# Altium schematic symbol library Passives.SchLib: 29 symbols
Pins are listed as number, name and electrical type; pins without a type are passive.

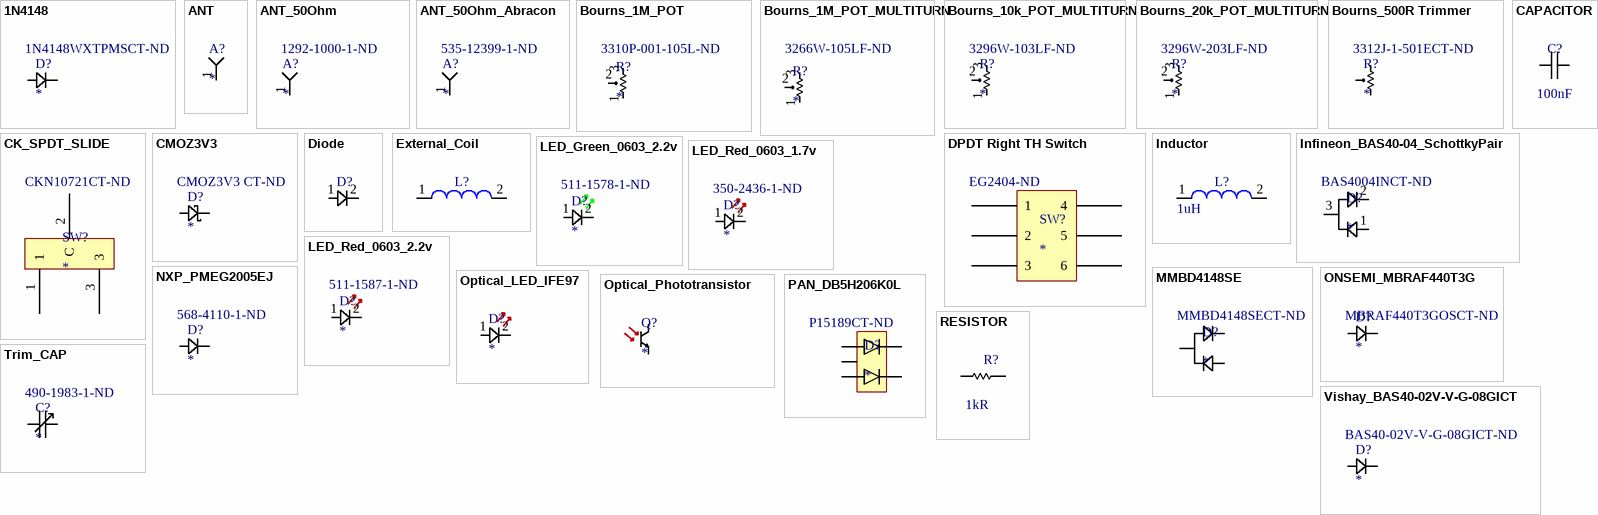
[diagram p0: symbols 1N4148 to Vishay_BAS40-02V-V-G-08GICT]

## 1N4148
designator D?  Supplier Part Number 1: 1N4148WXTPMSCT-ND
Supplier 1: Digi-Key
footprint 1N4148_SOD323_SC70
pins: 1, 2

## ANT
designator A?
external hole
footprint Hole
pins: 1

## ANT_50Ohm
designator A?  Supplier Part Number 1: 1292-1000-1-ND
Supplier 1: Digi-Key
footprint RES1206R (resistor 1206 reflow soldering)
pins: 1

## ANT_50Ohm_Abracon
designator A?  Supplier Part Number 1: 535-12399-1-ND
Abracon ACA-102-T; Supplier 1: Digi-Key
footprint ABRACON_ACA-102_T (DFN, 2-Leads, Body 2.00x1.20mm, Pitch 0.90mm, IPC High Density)
pins: 1

## Bourns_1M_POT
designator R?  Supplier Part Number 1: 3310P-001-105L-ND
1M Linear POT; Supplier 1: Digikey
footprint Bourns_3310P (1M_POT)
pins: 1, 2, 3

## Bourns_1M_POT_MULTITURN
designator R?  Supplier Part Number 1: 3266W-105LF-ND
TRIMMER, 12 TURN 1M; Manufacturer: Bourns; Manufacturer Part Number: 3266W-1-105LF; Resistance: 1MR; Tolerance: 10%; Power Rating: 250mW; Number of Turns: 12; Temperature Coefficient: 100ppm/°C; Voltage Rating: 300V; Lead Diameter: 0.5mm; Supplier 1: Digi-Key; RoHS: Yes; Category: Variable Resistors and Potentiometers; Stock 1: 306; Pricing 1: 1=4.16000, 10=3.64000, 25=3.25000, 50=3.05500, 100=2.99000, 250=2.86000, 500=2.34000, 1000=2.01500, 5000=1.82000 (USD); Mount: Through Hole,PCB; Weight: 0.015oz; Color: Blue; Number of Terminals: 3; Min Operating Temperature: -55°C; Max Operating Temperature: 150°C; Packaging: Rail/Tube; Package Quantity: 100; Max Power Dissipation: 250mW; Termination: Pin; Taper: Linear; Military Standard: Not; Composition: Cermet; Type: Potentiometer; Voltage Rating (DC): 300V; Length: 6.71mm; Height: 0.27inch; Width: 6.71mm; Depth: 4.5mm; Radiation Hardening: No; REACH SVHC: No SVHC; Lead Free: Lead Free; ComponentLink1URL: https://datasheet.ciiva.com/27051/1156285-27051523.pdf?src-supplier=Jameco; ComponentLink1Description: https://datasheet.ciiva.com/27051/1156285-27051523.pdf?src-supplier=Jameco; ComponentLink2URL: https://datasheet.ciiva.com/11831/0900766b806d6d20-11831899.pdf?src-supplier=RSComponents; ComponentLink2Description: https://datasheet.ciiva.com/11831/0900766b806d6d20-11831899.pdf?src-supplier=RSComponents; ComponentLink3URL: https://datasheet.ciiva.com/15156/getdatasheetpartid-43220-15156293.pdf?src-supplier=Verical; ComponentLink3Description: https://datasheet.ciiva.com/15156/getdatasheetpartid-43220-15156293.pdf?src-supplier=Verical; ComponentLink4URL: https://datasheet.ciiva.com/16715/70153569-16715077.pdf?src-supplier=Allied+Electronics; ComponentLink4Description: https://datasheet.ciiva.com/16715/70153569-16715077.pdf?src-supplier=Allied+Electronics; ComponentLink5URL: https://datasheet.ciiva.com/1131/1719388-1131046.pdf?src-supplier=Element14; ComponentLink5Description: https://datasheet.ciiva.com/1131/1719388-1131046.pdf?src-supplier=Element14; ComponentLink6URL: https://datasheet.ciiva.com/2157/3266-2157000.pdf?src-supplier=Digi-Key; ComponentLink6Description: https://datasheet.ciiva.com/2157/3266-2157000.pdf?src-supplier=Digi-Key; ComponentLink7URL: https://datasheet.ciiva.com/3266/3266-3266157.pdf?src-supplier=Avnet; ComponentLink7Description: https://datasheet.ciiva.com/3266/3266-3266157.pdf?src-supplier=Avnet; ComponentLink8URL: https://datasheet.ciiva.com/30130/3266-30130909.pdf?src-supplier=Onlinecomponents.com; ComponentLink8Description: https://datasheet.ciiva.com/30130/3266-30130909.pdf?src-supplier=Onlinecomponents.com; ComponentLink9URL: https://datasheet.ciiva.com/32378/es3266w-dat-e-32378557.pdf?src-supplier=Distrelec; ComponentLink9Description: https://datasheet.ciiva.com/32378/es3266w-dat-e-32378557.pdf?src-supplier=Distrelec; ComponentLink10URL: https://datasheet.ciiva.com/16806/3266-16806591.pdf?src-supplier=Avnet+Europe; ComponentLink10Description: https://datasheet.ciiva.com/16806/3266-16806591.pdf?src-supplier=Avnet+Europe; ComponentLink11URL: https://datasheet.ciiva.com/41425/001054911-da-01-en-trimmer-3266w-1-105lf-1m-ohm-0-25w-41425878.pdf?src-supplier=Conrad; ComponentLink11Description: https://datasheet.ciiva.com/41425/001054911-da-01-en-trimmer-3266w-1-105lf-1m-ohm-0-25w-41425878.pdf?src-supplier=Conrad
footprint BOURNS_3266W-1-105LF (1M_Linear_Pot)
pins: 1, 2, 3

## Bourns_10k_POT_MULTITURN
designator R?  Supplier Part Number 1: 3296W-103LF-ND
10k Pot; Supplier 1: Digi-Key
footprint BOURNS_3296W (20Kpot)
pins: 1, 2, 3

## Bourns_20k_POT_MULTITURN
designator R?  Supplier Part Number 1: 3296W-203LF-ND
20k Pot; Supplier 1: Digikey
footprint BOURNS_3296W (20Kpot)
pins: 1, 2, 3

## Bourns_500R Trimmer
designator R?  Supplier Part Number 1: 3312J-1-501ECT-ND
500R Trim; Supplier 1: Digi-Key
footprint BOURNS_3312 Trimmer
pins: 1, 2, 3

## CAPACITOR
designator C?, comment 100nF
Generic Capacitor Symbol; Value: 100nF
footprint RES0402R (resistor 0402 reflow soldering)
footprint RES1206R (resistor 1206 reflow soldering)
pins: 1, 2

## CK_SPDT_SLIDE
designator SW?  Supplier Part Number 1: CKN10721CT-ND
SPDT SMT SLIDE; Supplier 1: Digi-Key
footprint CK_JS102011JCQN (SPDT Switch)
pins: 1, 2 C, 3

## CMOZ3V3
designator D?  Supplier Part Number 1: CMOZ3V3 CT-ND
3.3V Zener SOD523; Supplier 1: Digi-Key
footprint SOD523 (SODFL, 2-Leads, Body 0.80x1.60mm, IPC High Density)
pins: 1, 2

## Diode
designator D?
footprint SOD323_SC70
pins: 1, 2

## DPDT Right TH Switch
designator SW?  Supplier Part Number 1: EG2404-ND
DPDT Through Right Switch; Supplier 1: Digi-Key
footprint DPDT Right TH Switch
pins: 1, 2, 3, 4, 5, 6

## External_Coil
designator L?
footprint External_Coil
pins: 1, 2

## Inductor
designator L?, comment 1uH
Value: 1uH
footprint RES0603R (resistor 0603 reflow soldering)
footprint RES0805R (resistor 0805 reflow soldering)
footprint RES0402R (resistor 0402 reflow soldering)
pins: 1, 2

## Infineon_BAS40-04_SchottkyPair
designator D?  Supplier Part Number 1: BAS4004INCT-ND
Supplier 1: Digi-Key
footprint Infineon_BAS40-04 (SOT23, 3-Leads, Body 2.90x2.40mm, Pitch 0.95mm, IPC Medium Density)
pins: 1, 2, 3

## LED_Green_0603_2.2v
designator D?  Supplier Part Number 1: 511-1578-1-ND
Supplier 1: Digi-Key
footprint 0603 Green LED
pins: 1, 2

## LED_Red_0603_1.7v
designator D?  Supplier Part Number 1: 350-2436-1-ND
Supplier 1: Digi-Key
footprint 0603 RED LED
pins: 1, 2

## LED_Red_0603_2.2v
designator D?  Supplier Part Number 1: 511-1587-1-ND
Supplier 1: Digi-Key
footprint 0603 RED LED
pins: 1, 2

## MMBD4148SE
designator D?  Supplier Part Number 1: MMBD4148SECT-ND
Supplier 1: Digi-Key
footprint Fairchild_MMBD4148SE
pins: 1, 2, 3

## NXP_PMEG2005EJ
designator D?  Supplier Part Number 1: 568-4110-1-ND
20V 500mA Schottky; Supplier 1: Digi-Key
footprint SOD323_SC70
pins: 1, 2

## ONSEMI_MBRAF440T3G
designator D?  Supplier Part Number 1: MBRAF440T3GOSCT-ND
40V 4A Schottky; Supplier 1: Digi-Key
footprint ONSEMI_MBRAF440T3G (Molded Diode, 2-Leads, Body 5.10x2.60mm, IPC High Density)
pins: 1, 2

## Optical_LED_IFE97
designator D?
High power red LED for low data rates
footprint IF_E97 (High power red LED for low data rates)
pins: 1, 2

## Optical_Phototransistor
designator Q?
Photodetector
footprint IF_E97 (High power red LED for low data rates)
pins: 1 C, 2 E

## PAN_DB5H206K0L
designator D?  Supplier Part Number 1: P15189CT-ND
Dual Schottky; Supplier 1: Digi-Key
footprint PAN_DB5H206K_SOTFL5 (SOTFL, 5-Leads, Body 2.00x2.10mm, Pitch 0.65mm, IPC Medium Density)
pins: 1, 2, 3, 4, 5

## RESISTOR
designator R?, comment 1kR
Generic Resistor Symbol; Value: 1kR
footprint RES0402R (resistor 0402 reflow soldering)
pins: 1, 2

## Trim_CAP
designator C?  Supplier Part Number 1: 490-1983-1-ND
Supplier 1: Digi-Key
footprint Murata_TZB4_Trim (Trim Cap)
pins: 1, 2

## Vishay_BAS40-02V-V-G-08GICT
designator D?  Supplier Part Number 1: BAS40-02V-V-G-08GICT-ND
40V 200mA Schottky; Supplier 1: Digikey
footprint SOD523 (SODFL, 2-Leads, Body 0.80x1.60mm, IPC High Density)
pins: 1, 2